# Altium schematic symbol library 声亮元件.SCHLIB: 11 symbols
Pins are listed as number, name and electrical type; pins without a type are passive.

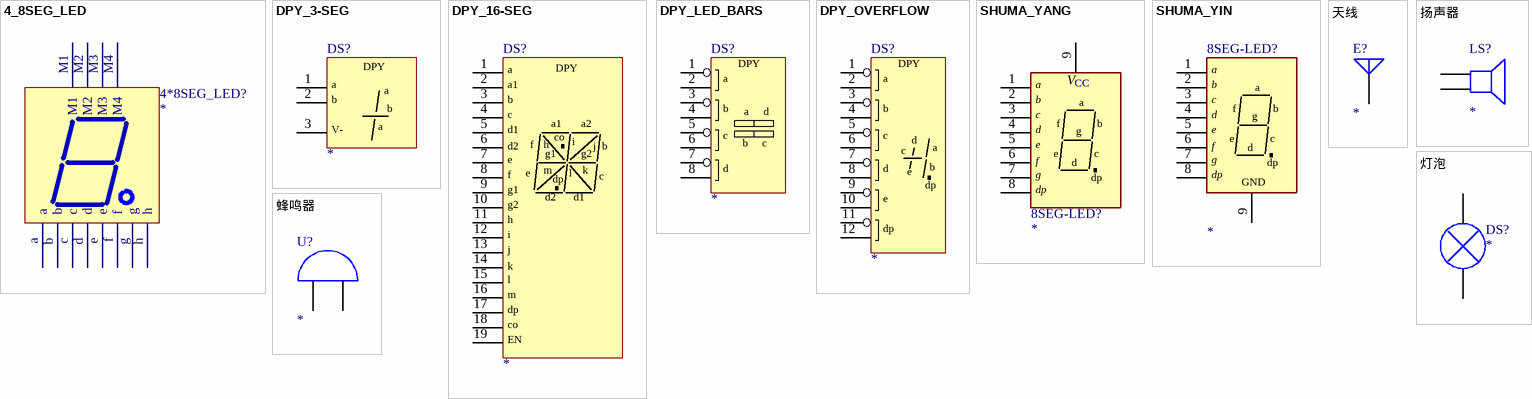
[diagram p0: symbols 4_8SEG_LED to 蜂鸣器]

## 4_8SEG_LED
designator 4*8SEG_LED?
footprint 4-8SLED(B)
footprint 4-8SLED(S)
pins: a, b, c, d, e, f, g, h, M1, M2, M3, M4

## DPY_3-SEG
designator DS?
Three-Segment Display
pins: 1 x, 2 y, 3 z
text: DPY; a; b; V-

## DPY_16-SEG
designator DS?
Sixteen-Segment (Alphanumeric) Display
pins: 1 a1, 2 a1, 3 b, 4 c, 5 d1, 6 d2, 7 e, 8 f, 9 g1, 10 g2, 11 h, 12 i, 13 j, 14 k, 15 l, 16 m, 17 dp, 18 co, 19 EN
text: DPY; a; a2

## DPY_LED_BARS
designator DS?
LED Light Bars
pins: 1 ~{a}, 2 a, 3 ~{b}, 4 b, 5 ~{c}, 6 c, 7 ~{d}, 8 d
text: DPY

## DPY_OVERFLOW
designator DS?
Overflow, Right Hand Decimal
pins: 1 ~{a}, 2 a, 3 ~{b}, 4 b, 5 ~{c}, 6 c, 7 ~{d}, 8 d, 9 ~{e}, 10 e, 11 d~{p}, 12 dp
text: DPY

## SHUMA_YANG
designator 8SEG-LED?
footprint 0.5INCH-DISP
footprint 0.8INCH-DISP
pins: 1 a, 2 b, 3 c, 4 d, 5 e, 6 f, 7 g, 8 dp, 9 VCC
text: V; CC

## SHUMA_YIN
designator 8SEG-LED?
footprint 0.5INCH-DISP
footprint 0.8INCH-DISP
pins: 1 a, 2 b, 3 c, 4 d, 5 e, 6 f, 7 g, 8 dp, 9 GND

## 天线
designator E?
Generic Antenna
pins: 1 A

## 扬声器
designator LS?
pins: 1, 2

## 灯泡
designator DS?
pins: 1, 2

## 蜂鸣器
designator U?
Bell
pins: 1 A, 2 B